# Altium schematic symbol library SRAD_SAC_Schlib.SchLib: 40 symbols
Pins are listed as number, name and electrical type; pins without a type are passive.

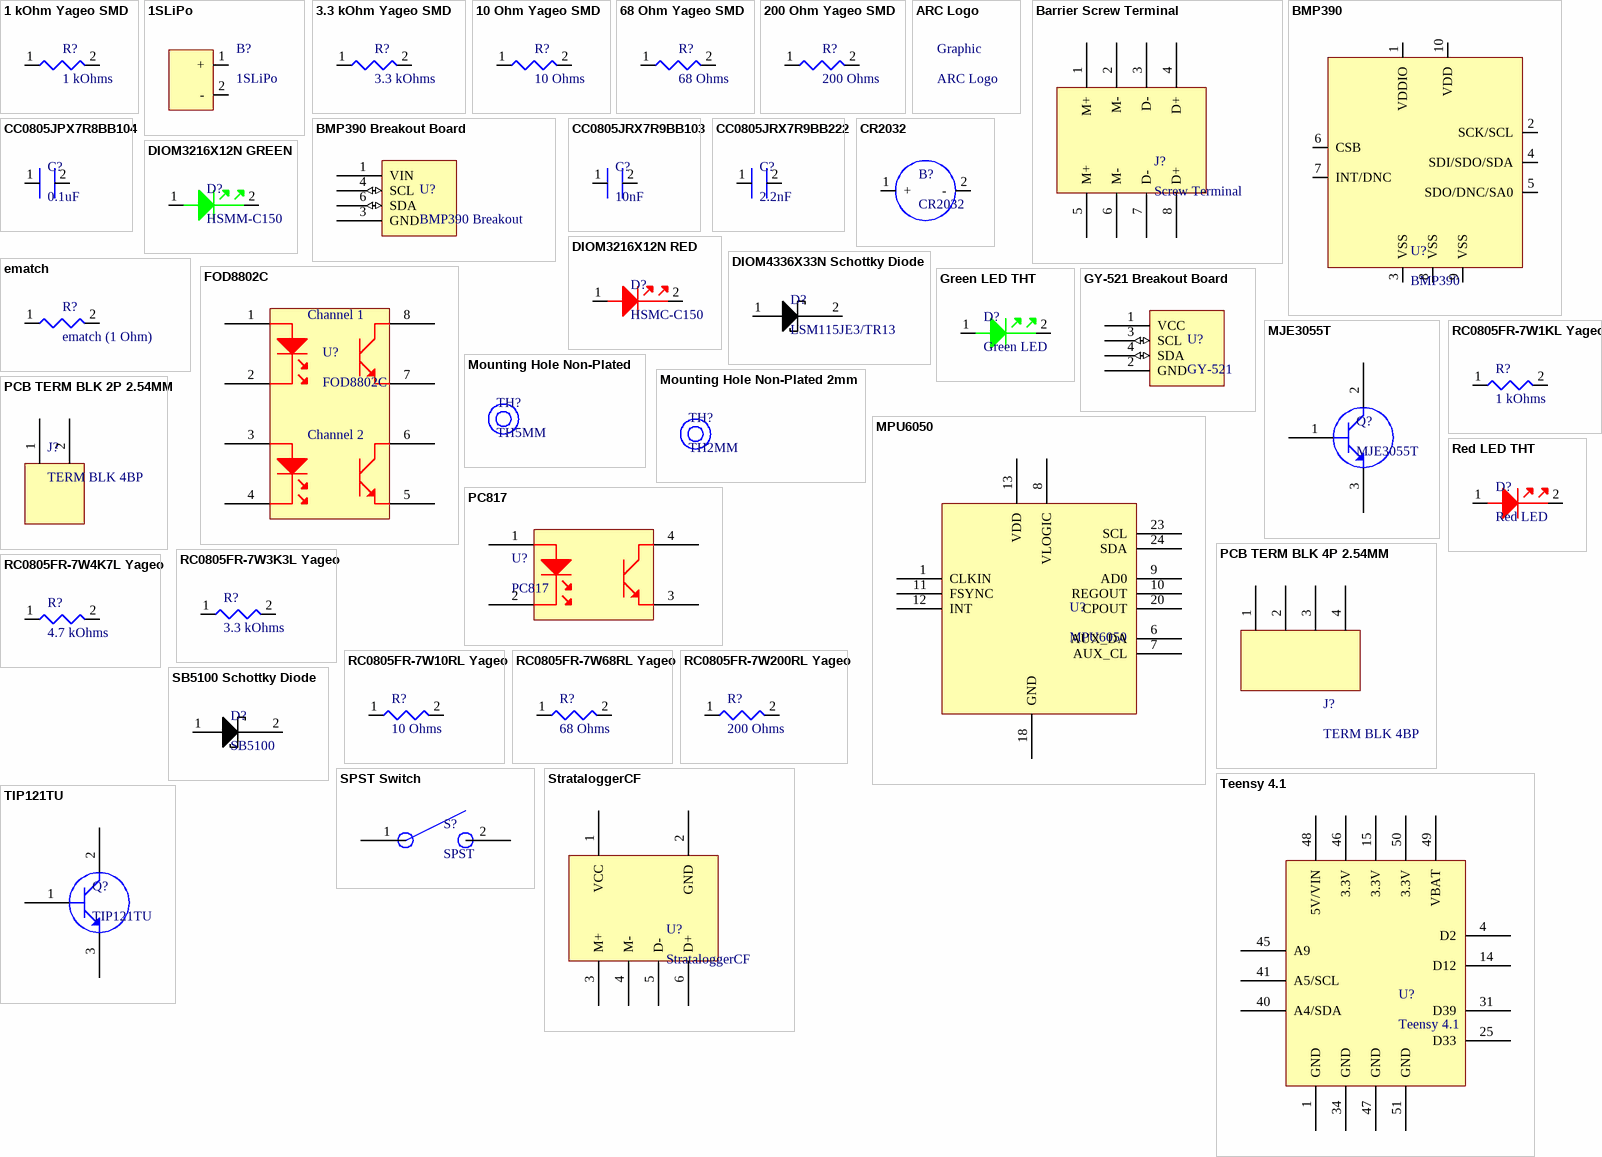
[diagram p0: symbols 1 kOhm Yageo SMD to TIP121TU]

## 1 kOhm Yageo SMD
designator R?, comment 1 kOhms
1 kOhms ±1% 1W Chip Resistor 2512 (6432 Metric) Moisture Resistant Thick Film; Manufacturer: Yageo; Manufacturer Part Number: RC2512FK-071KL; Value: 1kR; Voltage Rating: 200V; Temperature Coefficient: 100ppm/°C; Supplier 1: Digi-Key; RoHS: Yes; Category: Chip SMD Resistors; Stock 1: 4000; Pricing 1: 4000=0.05361, 8000=0.04850, 12000=0.04629, 28000=0.04435, 100000=0.04255 (USD); Case/Package: 2512; Case Code (Imperial): 2512; Case Code (Metric): 6432; Contact Plating: Tin,Matte; Min Operating Temperature: -55°C; Max Operating Temperature: 155°C; Tolerance: 1%; Power Rating: 1W; Packaging: Tape and Reel; Resistor Type: Thick Film; Number of Terminations: 2; Termination: SMD/SMT; Max Power Dissipation: 1W; Features: Moisture Resistant; Series: RC; Construction: Rectangular; Resistance Tolerance: 1%; Length: 0.25inch; Width: 3.1mm; Height: 0.026inch; Depth: 3.1mm; Radiation Hardening: No; Military Standard: Not; Lead Free: Lead Free; RoHS Compliant: Yes; ComponentLink1URL: https://datasheet.ciiva.com/7671/638316-7671963.pdf?src-supplier=Element14; ComponentLink1Description: https://datasheet.ciiva.com/7671/638316-7671963.pdf?src-supplier=Element14; ComponentLink2URL: https://datasheet.ciiva.com/7671/638316-7671962.pdf?src-supplier=Element14; ComponentLink2Description: https://datasheet.ciiva.com/7671/638316-7671962.pdf?src-supplier=Element14; ComponentLink3URL: https://datasheet.ciiva.com/12555/pyu-rc2512-51-rohs-l-4-12555290.pdf?src-supplier=Mouser; ComponentLink3Description: https://datasheet.ciiva.com/12555/pyu-rc2512-51-rohs-l-4-12555290.pdf?src-supplier=Mouser; ComponentLink4URL: https://datasheet.ciiva.com/8896/pyu-rc2512-51-rohs-l-4-8896186.pdf?src-supplier=Avnet; ComponentLink4Description: https://datasheet.ciiva.com/8896/pyu-rc2512-51-rohs-l-4-8896186.pdf?src-supplier=Avnet; ComponentLink5URL: https://datasheet.ciiva.com/17421/pyu-rc2512-51-rohs-l-4-17421912.pdf?src-supplier=Future+Electronics; ComponentLink5Description: https://datasheet.ciiva.com/17421/pyu-rc2512-51-rohs-l-4-17421912.pdf?src-supplier=Future+Electronics; Supplier Part Number 1: YAG3390TR-ND
footprint 1 kOhm Yageo SMD
pins: 1, 2

## 1SLiPo
designator B?
1S Lithium Polymer Battery 3.7-4.2V nominal voltage
footprint 1SLiPo
pins: 1 + (power), 2 -

## 3.3 kOhm Yageo SMD
designator R?, comment 3.3 kOhms
3.3 kOhms ±1% 1W Chip Resistor 2512 (6432 Metric) Moisture Resistant Thick Film; Manufacturer: Yageo; Manufacturer Part Number: RC2512FK-073K3L; Value: 3.3kR; Voltage Rating: 200V; Temperature Coefficient: 100ppm/°C; Supplier 1: Digi-Key; RoHS: Yes; Category: Chip SMD Resistors; Stock 1: 6193; Pricing 1: 1=0.41000, 10=0.29400, 100=0.11740, 1000=0.05786 (USD); Case/Package: 2512; Case Code (Imperial): 2512; Case Code (Metric): 6432; Contact Plating: Tin,Lead; Min Operating Temperature: -55°C; Max Operating Temperature: 155°C; Tolerance: 1%; Power Rating: 1W; Packaging: Tape and Reel; Resistor Type: Thick Film; Number of Terminations: 2; Termination: SMD/SMT; Max Power Dissipation: 1W; Features: Moisture Resistant; Series: RC; Resistance Tolerance: 1%; Construction: Rectangular; Length: 0.25inch; Width: 3.1mm; Height: 0.026inch; Depth: 3.1mm; Radiation Hardening: No; Military Standard: Not; RoHS Compliant: Yes; ComponentLink1URL: https://datasheet.ciiva.com/7671/638316-7671990.pdf?src-supplier=Element14; ComponentLink1Description: https://datasheet.ciiva.com/7671/638316-7671990.pdf?src-supplier=Element14; ComponentLink2URL: https://datasheet.ciiva.com/7671/638316-7671991.pdf?src-supplier=Element14; ComponentLink2Description: https://datasheet.ciiva.com/7671/638316-7671991.pdf?src-supplier=Element14; ComponentLink3URL: https://datasheet.ciiva.com/12575/pyu-rc2512-51-rohs-l-4-12575433.pdf?src-supplier=Mouser; ComponentLink3Description: https://datasheet.ciiva.com/12575/pyu-rc2512-51-rohs-l-4-12575433.pdf?src-supplier=Mouser; Supplier Part Number 1: 13-RC2512FK-073K3LCT-ND
footprint 3.3 kOhm Yageo SMD
pins: 1, 2

## 10 Ohm Yageo SMD
designator R?, comment 10 Ohms
10 Ohms ±1% 1W Chip Resistor 2512 (6432 Metric) Moisture Resistant Thick Film; Manufacturer: Yageo; Manufacturer Part Number: RC2512FK-0710RL; Value: 10R; Voltage Rating: 200V; Temperature Coefficient: 200ppm/°C; Supplier 1: Digi-Key; RoHS: Yes; Category: Chip SMD Resistors; Stock 1: 164000; Pricing 1: 4000=0.10208, 8000=0.09187, 12000=0.08983, 28000=0.08677, 100000=0.08425 (USD); Case/Package: 2512; Case Code (Imperial): 2512; Case Code (Metric): 6432; Min Operating Temperature: -55°C; Max Operating Temperature: 155°C; Packaging: Tape and Reel; Power Rating: 1W; Tolerance: 1%; Resistor Type: Thick Film; Number of Terminations: 2; Termination: SMD/SMT; Max Power Dissipation: 1W; Working Voltage: 200V; Features: Moisture Resistant; Series: RC; Construction: Rectangular; Resistance Tolerance: 1%; Technology: THICK FILM; Length: 0.25inch; Width: 0.122inch; Height: 0.026inch; Depth: 3.1mm; Military Standard: Not; Lead Free: Lead Free; RoHS Compliant: Yes; ComponentLink1URL: https://datasheet.ciiva.com/23789/442906-23789776.pdf?src-supplier=Newark; ComponentLink1Description: https://datasheet.ciiva.com/23789/442906-23789776.pdf?src-supplier=Newark; ComponentLink2URL: https://datasheet.ciiva.com/7671/638316-7671951.pdf?src-supplier=Element14; ComponentLink2Description: https://datasheet.ciiva.com/7671/638316-7671951.pdf?src-supplier=Element14; ComponentLink3URL: https://datasheet.ciiva.com/12667/pyu-rc2512-51-rohs-l-4-12667005.pdf?src-supplier=Mouser; ComponentLink3Description: https://datasheet.ciiva.com/12667/pyu-rc2512-51-rohs-l-4-12667005.pdf?src-supplier=Mouser; ComponentLink4URL: https://datasheet.ciiva.com/16741/pyu-rc2512-51-rohs-l-4-16741660.pdf?src-supplier=Future+Electronics; ComponentLink4Description: https://datasheet.ciiva.com/16741/pyu-rc2512-51-rohs-l-4-16741660.pdf?src-supplier=Future+Electronics; Supplier Part Number 1: YAG3389TR-ND
footprint 10 Ohm Yageo SMD
pins: 1, 2

## 68 Ohm Yageo SMD
designator R?, comment 68 Ohms
68 Ohms ±1% 1W Chip Resistor 2512 (6432 Metric) Moisture Resistant Thick Film; Manufacturer: Yageo; Manufacturer Part Number: RC2512FK-0768RL; Value: 68R; Voltage Rating: 200V; Temperature Coefficient: 100ppm/°C; Supplier 1: Digi-Key; RoHS: Yes; Category: Chip SMD Resistors; Pricing 1: 4000=0.05361, 8000=0.04850, 12000=0.04629, 28000=0.04435, 100000=0.04255 (USD); Case/Package: 2512; Case Code (Imperial): 2512; Case Code (Metric): 6432; Contact Plating: Tin,Matte; Min Operating Temperature: -55°C; Max Operating Temperature: 155°C; Tolerance: 1%; Power Rating: 1W; Packaging: Tape and Reel; Resistor Type: Thick Film; Number of Terminations: 2; Termination: SMD/SMT; Max Power Dissipation: 1W; Features: Moisture Resistant; Series: RC; Construction: Rectangular; Resistance Tolerance: 1%; Length: 0.25inch; Width: 0.122inch; Height: 0.026inch; Depth: 3.1mm; Radiation Hardening: No; Military Standard: Not; RoHS Compliant: Yes; ComponentLink1URL: https://datasheet.ciiva.com/7672/638316-7672008.pdf?src-supplier=Element14; ComponentLink1Description: https://datasheet.ciiva.com/7672/638316-7672008.pdf?src-supplier=Element14; ComponentLink2URL: https://datasheet.ciiva.com/7672/638316-7672009.pdf?src-supplier=Element14; ComponentLink2Description: https://datasheet.ciiva.com/7672/638316-7672009.pdf?src-supplier=Element14; Supplier Part Number 1: 13-RC2512FK-0768RLTR-ND
footprint 68 Ohm Yageo SMD
pins: 1, 2

## 200 Ohm Yageo SMD
designator R?, comment 200 Ohms
200 Ohms ±1% 1W Chip Resistor 2512 (6432 Metric) Moisture Resistant Thick Film made by Yageo; Manufacturer Part Number: RC2512FK-07200RL; Value: 200R; Temperature Coefficient: 100ppm/°C; Voltage Rating: 200V; Supplier 1: Digi-Key; Manufacturer: Yageo; RoHS: Yes; Category: Chip SMD Resistors; Stock 1: 3518; Pricing 1: 1=0.41000, 10=0.29400, 100=0.11740, 1000=0.05786 (USD); Case/Package: 2512; Case Code (Imperial): 2512; Case Code (Metric): 6432; Contact Plating: Tin,Matte; Min Operating Temperature: -55°C; Max Operating Temperature: 155°C; Tolerance: 1%; Packaging: Tape and Reel; Resistor Type: Thick Film; Number of Terminations: 2; Max Power Dissipation: 1W; Features: Moisture Resistant; Power Rating: 1W; Termination: SMD/SMT; Series: RC; Construction: Rectangular; Length: 6.35mm; Width: 0.122inch; Height: 0.026inch; Depth: 3.1mm; Radiation Hardening: No; RoHS Compliant: Yes; Military Standard: Not; ComponentLink1URL: https://datasheet.ciiva.com/12555/pyu-rc2512-51-rohs-l-4-12555336.pdf?src-supplier=Mouser; ComponentLink1Description: https://datasheet.ciiva.com/12555/pyu-rc2512-51-rohs-l-4-12555336.pdf?src-supplier=Mouser; Supplier Part Number 1: 13-RC2512FK-07200RLCT-ND
footprint 200 Ohm Yageo SMD
pins: 1, 2

## ARC Logo
designator Graphic  (graphical)

## Barrier Screw Terminal
designator J?, comment Screw Terminal
footprint Barrier Screw Terminal
pins: 1 M+, 2 M-, 3 D-, 4 D+, 5 M+, 6 M-, 7 D-, 8 D+

## BMP390
designator U?
Barometric pressure sensor manufactured by Bosch.; Supplier: Rutrinik24; Supplier ID: ICENVI1363
footprint BMP390 (LGA, 20-Leads, Body 2.00x2.00mmx0.80mm, Pitch 0.50mm)
pins: 1 VDDIO, 2 SCK/SCL, 3 VSS, 4 SDI/SDO/SDA, 5 SDO/DNC/SA0, 6 CSB, 7 INT/DNC, 8 VSS, 9 VSS, 10 VDD

## BMP390 Breakout Board
designator U?, comment BMP390 Breakout
Barometric pressure sensor manufactured by Bosch.
footprint BMP390
pins: 1 VIN, 3 GND, 4 SCL (io), 6 SDA (io)

## CC0805JPX7R8BB104
designator C?, comment 0.1uF
Capacitor Multilayer Ceramic MLCC - SMD/SMT 25 V 0.1uF X7R 0805 5%; Manufacturer: Yageo; Manufacturer Part Number: CC0805JPX7R8BB104; Supplier 1: Mouser; RoHS: Yes; Category: Ceramic Capacitors; Stock 1: 164887; Pricing 1: 1=0.14000, 10=0.09400, 50=0.09400, 100=0.04800, 1000=0.02900, 10000=0.02300 (USD); RoHS Compliant: Yes; Supplier Part Number 1: 603-CC0805JPX7R8BB10
footprint CAPC2012X14N_1_35mm_HEIGHT (Chip Capacitor, 2-Leads, Body 2.00x1.25mm, IPC Medium Density)
pins: 1, 2

## CC0805JRX7R9BB103
designator C?, comment 10nF
Capacitor Multilayer Ceramic MLCC - SMD/SMT 50V 10nF X7R 0805 5%; Manufacturer: Yageo; Manufacturer Part Number: CC0805JRX7R9BB103; Dissipation Factor: 2.5%; Insulation Resistance: 10GR; Supplier 1: Mouser; RoHS: Yes; Category: Ceramic Capacitors; Stock 1: 102180; Pricing 1: 1=0.12000, 10=0.05000, 50=0.05000, 100=0.04100, 1000=0.02400, 10000=0.01700 (USD); Mounting Technology: Surface Mount; Case/Package: 0805; Pins: 2; Case Code (Imperial): 0805; Case Code (Metric): 2012; Min Operating Temperature: -55°C; Max Operating Temperature: 125°C; Voltage Rating (DC): 50V; Tolerance: 5%; Packaging: Tape and Reel; Value: 10nF; Voltage Rating: 50V; Package Quantity: 4000; Dielectric: X7R; Termination: SMD/SMT; Resistor Type: Ceramic; Series: CC; Construction: Flat; Length: 2mm; Width: 0.049inch; Height: 0.6mm; Thickness: 0.071inch; Depth: 1.25mm; Radiation Hardening: No; Lead Free: Lead Free; Halogen Free: Halogen Free; RoHS Compliant: Yes; ComponentLink1URL: https://datasheet.ciiva.com/26862/getdatasheetpartid-251801-26862952.pdf?src-supplier=Verical; ComponentLink1Description: https://datasheet.ciiva.com/26862/getdatasheetpartid-251801-26862952.pdf?src-supplier=Verical; ComponentLink2URL: https://datasheet.ciiva.com/11583/upy-gphc-x7r-6-3v-to-50v-8-11583532.pdf?src-supplier=Avnet; ComponentLink2Description: https://datasheet.ciiva.com/11583/upy-gphc-x7r-6-3v-to-50v-8-11583532.pdf?src-supplier=Avnet; ComponentLink3URL: https://datasheet.ciiva.com/13385/upy-gphc-x7r-6-3v-to-50v-8-13385902.pdf?src-supplier=Mouser; ComponentLink3Description: https://datasheet.ciiva.com/13385/upy-gphc-x7r-6-3v-to-50v-8-13385902.pdf?src-supplier=Mouser; Supplier Part Number 1: 603-CC805JRX7R9BB103
footprint CAPC2012X07N_06mmHEIGHT (Chip Capacitor, 2-Leads, Body 2.00x1.25mm, IPC Medium Density)
pins: 1, 2

## CC0805JRX7R9BB222
designator C?, comment 2.2nF
Capacitor Multilayer Ceramic MLCC - SMD/SMT 50 V 2.2nF X7R 0805 5%; Manufacturer: Yageo; Manufacturer Part Number: CC0805JRX7R9BB222; Voltage Rating: 50V; Supplier 1: Mouser; RoHS: Yes; Category: Ceramic Capacitors; Stock 1: 8721; Pricing 1: 1=0.14000, 10=0.06300, 50=0.06300, 100=0.04600, 1000=0.02800, 10000=0.01700 (USD); Mounting Technology: Surface Mount; Case/Package: 0805; Case Code (Imperial): 0805; Case Code (Metric): 2012; Min Operating Temperature: -55°C; Max Operating Temperature: 125°C; Value: 2.2nF; Tolerance: 5%; Voltage Rating (DC): 50V; Packaging: Tape and Reel; Dielectric: X7R; Termination: SMD/SMT; Resistor Type: Ceramic; Series: CC; Length: 2mm; Width: 0.049inch; Height: 0.6mm; Thickness: 0.028inch; Depth: 1.25mm; Radiation Hardening: No; Lead Free: Lead Free; Halogen Free: Halogen Free; RoHS Compliant: Yes; ComponentLink1URL: https://datasheet.ciiva.com/5425/upy-gphc-x7r-6-3v-to-50v-8-12304-5425448.pdf?src-supplier=Mouser; ComponentLink1Description: https://datasheet.ciiva.com/5425/upy-gphc-x7r-6-3v-to-50v-8-12304-5425448.pdf?src-supplier=Mouser; ComponentLink2URL: https://datasheet.ciiva.com/11583/upy-gphc-x7r-6-3v-to-50v-8-11583549.pdf?src-supplier=Avnet; ComponentLink2Description: https://datasheet.ciiva.com/11583/upy-gphc-x7r-6-3v-to-50v-8-11583549.pdf?src-supplier=Avnet; ComponentLink3URL: https://datasheet.ciiva.com/26829/getdatasheetpartid-407633-26829532.pdf?src-supplier=Verical; ComponentLink3Description: https://datasheet.ciiva.com/26829/getdatasheetpartid-407633-26829532.pdf?src-supplier=Verical; Supplier Part Number 1: 603-CC805JRX7R9BB222
footprint CAPC2012X07N_06mmHEIGHT (Chip Capacitor, 2-Leads, Body 2.00x1.25mm, IPC Medium Density)
pins: 1, 2

## CR2032
designator B?
CR2032 Coin cell battery of 3V.
footprint CR2032
pins: 1 +, 2 -

## DIOM3216X12N GREEN
designator D?, comment HSMM-C150
Green 525nm LED Indication - Discrete 3.3V 1206 (3216 Metric); Manufacturer: Broadcom Avago; Lens Color: White; Lens Style: Diffused,Colorless,Rectangular; Viewing Angle: 170°; Forward Current: 20mA; Power Rating: 78mW; Luminous Intensity: 120mcd; Lens Transparency: Diffused; Number of LEDs: 1; Reverse Voltage: 5V; Supplier 1: Digi-Key; Manufacturer Part Number: HSMM-C150; RoHS: Yes; Category: LEDs; Stock 1: 3000; Pricing 1: 3000=0.48083, 6000=0.46999, 15000=0.45914 (USD); Mounting Technology: Surface Mount; Case/Package: 1206; Pins: 2; Color: Green; Case Code (Imperial): 1206; Contact Plating: Gold; Min Operating Temperature: -40°C; Max Operating Temperature: 85°C; Packaging: Tape and Reel; Package Quantity: 3000; Illumination Color: Green; Forward Voltage: 3.3V; Test Current: 20mA; Dominant Wavelength: 525nm; Wavelength: 525nm; Max Power Dissipation: 78mW; Series: -; Length: 3.2mm; Width: 1.6mm; Height: 1.1mm; Lead Free: Lead Free; RoHS Compliant: Yes; ComponentLink1URL: http://components.arrow.com/part/dataview/2630207S7245440N7786?src-supplier=Arrow+Electronics; ComponentLink1Description: http://components.arrow.com/part/dataview/2630207S7245440N7786?src-supplier=Arrow+Electronics; ComponentLink2URL: https://docs.broadcom.com/docs/AV02-0592EN?src-supplier=Digi-Key; ComponentLink2Description: https://docs.broadcom.com/docs/AV02-0592EN?src-supplier=Digi-Key; ComponentLink3URL: http://www.avagotech.com/docs/AV02-0592EN?src-supplier=Avnet; ComponentLink3Description: http://www.avagotech.com/docs/AV02-0592EN?src-supplier=Avnet; ComponentLink4URL: http://www.avagotech.com/docs/AV02-0592EN?src-supplier=Mouser; ComponentLink4Description: http://www.avagotech.com/docs/AV02-0592EN?src-supplier=Mouser; ComponentLink5URL: http://www.farnell.com/datasheets/1804332.pdf?src-supplier=Element14; ComponentLink5Description: http://www.farnell.com/datasheets/1804332.pdf?src-supplier=Element14; Supplier Part Number 1: 516-HSMM-C150TR-ND
footprint DIOM3216X12N GREEN (Molded Diode, 2-Leads, Body 3.20x1.60mm, IPC Medium Density)
pins: 1 +, 2 -

## DIOM3216X12N RED
designator D?, comment HSMC-C150
Red 626nm LED Indication - Discrete 1.9V 1206 (3216 Metric); Manufacturer: Broadcom Avago; Lens Color: White; Forward Current: 20mA; Luminous Intensity: 90mcd; Viewing Angle: 170°; Lens Style: Diffused,Colorless,Rectangular; Power Rating: 60mW; Lens Transparency: Diffused; Number of Elements: 1; Reverse Voltage: 5V; Supplier 1: Digi-Key; Manufacturer Part Number: HSMC-C150; RoHS: Yes; Category: LEDs; Stock 1: 24000; Pricing 1: 3000=0.18077, 6000=0.16871, 15000=0.16269, 30000=0.16028 (USD); Mounting Technology: Surface Mount; Case/Package: 1206; Pins: 2; Color: Red; Case Code (Metric): 3016; Case Code (Imperial): 1206; Min Operating Temperature: -40°C; Max Operating Temperature: 85°C; Forward Voltage: 1.9V; Packaging: Tape and Reel; Package Quantity: 1; Series: -; Illumination Color: Red; Wavelength: 626nm; Test Current: 20mA; Dominant Wavelength: 626nm; Power Dissipation: 60mW; Max Power Dissipation: 60mW; Number of LEDs: 1; Length: 3.2mm; Width: 1.6mm; Height: 1.1mm; Depth: 1.6mm; Radiation Hardening: No; RoHS Compliant: Yes; Reach SVHC Compliant: Yes; ComponentLink1URL: https://datasheet.ciiva.com/29281/180506-da-01-en-chip-led-hsmc-c150-rot-29281000.pdf?src-supplier=Conrad; ComponentLink1Description: https://datasheet.ciiva.com/29281/180506-da-01-en-chip-led-hsmc-c150-rot-29281000.pdf?src-supplier=Conrad; ComponentLink2URL: https://datasheet.ciiva.com/48430/hsmx-c110-170-190-191-150-eng-tds-48430136.pdf?src-supplier=Distrelec; ComponentLink2Description: https://datasheet.ciiva.com/48430/hsmx-c110-170-190-191-150-eng-tds-48430136.pdf?src-supplier=Distrelec; ComponentLink3URL: https://datasheet.ciiva.com/22656/80886-22656552.pdf?src-supplier=Element14; ComponentLink3Description: https://datasheet.ciiva.com/22656/80886-22656552.pdf?src-supplier=Element14; ComponentLink4URL: https://datasheet.ciiva.com/22656/80886-22656553.pdf?src-supplier=Element14; ComponentLink4Description: https://datasheet.ciiva.com/22656/80886-22656553.pdf?src-supplier=Element14; Supplier Part Number 1: 516-2825-2-ND
footprint DIOM3216X12N RED (Molded Diode, 2-Leads, Body 3.20x1.60mm, IPC Medium Density)
pins: 1 +, 2 -

## DIOM4336X33N Schottky Diode
designator D?, comment LSM115JE3/TR13
Diode 15 V 1A Surface Mount DO-214BA 220mV dropout @1A 10mA leakage current @15V -55°C ~ 150°C Maximum surge current of 50A for 8.3ms; Manufacturer: Microchip; Supplier 1: Digi-Key; Manufacturer Part Number: LSM115JE3/TR13; RoHS: Yes; Category: Rectifier Diodes; Stock 1: 319959; Pricing 1: 3000=0.55500 (USD); Supplier Part Number 1: 150-LSM115JE3/TR13TR-ND
footprint DIOM4336X33N (Molded Diode, 2-Leads, Body 4.31x3.62mm, IPC Medium Density)
pins: 1 +, 2 -

## ematch
designator R?, comment ematch (1 Ohm)
ematch of 1.0-1.5 Ohms of resistance that lights black powder ejection charges.
footprint ematch
pins: 1 +, 2 -

## FOD8802C
designator U?
Optoisolator Transistor Output 2500Vrms 2 Channel 8-SOIC 75V max 30mA/channel Vf 1.35V -40°C ~ 125°C minimum CTR of / 140% @ 1mA maximum CTR of / 380% @ 1mA; Manufacturer: ON Semiconductor; Supplier 1: Digi-Key; Manufacturer Part Number: FOD8802C; RoHS: No; Category: Optocouplers; Stock 1: 2868; Pricing 1: 1=1.72000, 10=1.54500, 25=1.45760, 100=1.24180, 250=1.16600, 500=1.02024, 1000=0.84535, 2500=0.78705, 5000=0.75790 (USD); Supplier Part Number 1: 488-FOD8802C-ND
footprint SOIC127P590X363-8N OPTO (SOIC, 8-Leads, Body 4.88x3.91mm, Pitch 1.27mm, IPC Medium Density)
pins: 1 +, 2 -, 3 +, 4 -, 5 E2, 6 C2, 7 E1, 8 C1
text: Channel 1; Channel 2

## Green LED THT
designator D?, comment Green LED
Green 525nm LED Indication - Discrete 3.2V Radial HLMP-LM65-Z30DD; Manufacturer: Broadcom Avago; Luminous Intensity: 3720mcd; Viewing Angle: 50°; Lens Style: Elliptical,Diffused,Colored; Wavelength: 540nm; Forward Current: 20mA; Lens Transparency: Diffused; Number of Elements: 1; Power Dissipation: 114mW; Reverse Voltage: 5V; Supplier 1: Digi-Key; Manufacturer Part Number: HLMP-LM65-Z30DD; RoHS: Yes; Category: LEDs; Mounting Technology: Through Hole; Case/Package: Radial; Pins: 2; Color: Green; Lens Color: Green; Min Operating Temperature: -40°C; Max Operating Temperature: 85°C; Forward Voltage: 3.2V; Packaging: Tape and Reel; Package Quantity: 2000; Test Current: 20mA; Dominant Wavelength: 525nm; Number of LEDs: 1; Series: -; Length: 3.8mm; Height: 10.5mm; Depth: 3mm; Radiation Hardening: No; Reach SVHC Compliant: Yes; RoHS Compliant: Yes; ComponentLink1URL: https://datasheet.ciiva.com/5786/303222-5786291.pdf?src-supplier=Farnell; ComponentLink1Description: https://datasheet.ciiva.com/5786/303222-5786291.pdf?src-supplier=Farnell; Supplier Part Number 1: HLMP-LM65-Z30DD-ND
footprint Green LED THT
pins: 1 +, 2 -

## GY-521 Breakout Board
designator U?, comment GY-521
Accelerometer and gyroscope 6 DOF sensor. GY-521 breakout board by HiLetgo and MPU6050 chip by Invensense.
footprint MPU6050
pins: 1 VCC, 2 GND, 3 SCL (io), 4 SDA (io)

## MJE3055T
designator Q?
Bipolar (BJT) Transistor NPN 60 V 10 A 2MHz 75 W Through Hole
footprint MJE3055T
pins: 1 B, 2 C, 3 E

## Mounting Hole Non-Plated
designator TH?, comment TH5MM  (no BOM)
Non-plated THT 5mm diameter
footprint Mounting Hole Non-Plated

## Mounting Hole Non-Plated 2mm
designator TH?, comment TH2MM  (no BOM)
Non-plated THT 2mm diameter
footprint Mounting Hole Non-Plated 2MM

## MPU6050
designator U?
Accelerometer and gyroscope 6 DOF sensor. GY-521 breakout board by HiLetgo and MPU6050 chip by Invensense.
footprint MPU6050 (QFN, 24-Leads, Body 4.00x4.00mm, Pitch 0.50mm, Thermal Pad 2.70x2.60mm, IPC Medium Density)
pins: 1 CLKIN, 6 AUX_DA, 7 AUX_CL, 8 VLOGIC, 9 AD0, 10 REGOUT, 11 FSYNC, 12 INT, 13 VDD, 18 GND, 20 CPOUT, 23 SCL, 24 SDA

## PC817
designator U?
Photocoupler output: phototransistor, DIP4 2.54mm, Forward current (ICEO): 50mA Forward peak current (ICE max) :1A Reverse voltage :6V Power consumption: 70mW Collector emitter voltage :35V Emitter collector voltage: 6V Collector current: 50mA Collector power consumption: 150mW Total power consumption: 200mW Working temperature: -30℃~+100℃ Collector emitter saturation voltage: 0.1V (typical value)
footprint PC817
pins: 1 +, 2 -, 3 E, 4 C

## PCB TERM BLK 2P 2.54MM
designator J?, comment TERM BLK 4BP
2 Position Wire to Board Terminal Block Horizontal with Board 0.100" (2.54mm) Through Hole 10A 150V 16-30 AWG 0.2 Nm M1.6 screw -40°C ~ 105°C; Manufacturer: TE Connectivity; Manufacturer Part Number: 282834-2; Plating: Brass,Steel; Number of Poles: 2; Gender: Male; Number of Levels: 1; Connector Type: Receptacle; Closed End: No (Without); Screwless Terminal Block: Yes (With); Wire Gauge (Max): 30AWG; Tail Length: 3.4mm; Approvals: UL; Supplier 1: Digi-Key; RoHS: Yes; Category: Terminal Blocks; Stock 1: 34508; Pricing 1: 1=1.95000, 10=1.47400, 25=1.36640, 50=1.22860, 100=1.19860, 250=1.04876, 500=0.95886, 1000=0.86896, 5000=0.76409 (USD); Mounting Technology: Through Hole; Contact Plating: Tin; Contact Material: Brass; Color: Green; Material: Nylon; Housing Color: Green; Housing Material: Polyamide; Min Operating Temperature: -40°C; Max Operating Temperature: 105°C; Number of Rows: 1; Max Voltage Rating (AC): 150V; Current Rating: 10A; Voltage Rating: 150V; Package Quantity: 300; Packaging: Bulk; Number of Positions: 2; Termination: Solder; Number of Positions Per Level: 2; Current: 10A; Voltage: 150V; Max Supply Voltage (AC): 150V; Number of Contacts: 2; Number of Circuits: 2; Orientation: Straight; Max Current Rating: 10A; Interlock: No (Without); Screw Flange: No (Without); Side Stackable: Yes (With); Series: Buchanan; Length: 5.54mm; Width: 6.5mm; Wire Gauge (Min): 30AWG; Wire/Cable Gauge: 30AWG; Pitch: 2.54mm; Thread Size: M1.6; Depth: 6.5mm; Radiation Hardening: No; ELV: Compliant; Lead Free: Lead Free; Flammability Rating: UL94 V-0; RoHS Compliant: Yes; ComponentLink1URL: https://datasheet.ciiva.com/16386/282834-2-16386363.pdf?src-supplier=Future+Electronics; ComponentLink1Description: https://datasheet.ciiva.com/16386/282834-2-16386363.pdf?src-supplier=Future+Electronics; ComponentLink2URL: https://datasheet.ciiva.com/30166/eng-cs-1308389-eurostyle-terminal-blocks-0607-30166974.pdf?src-supplier=Onlinecomponents.com; ComponentLink2Description: https://datasheet.ciiva.com/30166/eng-cs-1308389-eurostyle-terminal-blocks-0607-30166974.pdf?src-supplier=Onlinecomponents.com; ComponentLink3URL: https://datasheet.ciiva.com/14609/70086732-14609670.pdf?src-supplier=Allied+Electronics; ComponentLink3Description: https://datasheet.ciiva.com/14609/70086732-14609670.pdf?src-supplier=Allied+Electronics; ComponentLink4URL: https://datasheet.ciiva.com/15169/getdatasheetpartid-155864-15169558.pdf?src-supplier=Verical; ComponentLink4Description: https://datasheet.ciiva.com/15169/getdatasheetpartid-155864-15169558.pdf?src-supplier=Verical; ComponentLink5URL: https://datasheet.ciiva.com/3141/eng-cs-1308389-eurostyle-terminal-blocks-0607-3141115.pdf?src-supplier=Avnet; ComponentLink5Description: https://datasheet.ciiva.com/3141/eng-cs-1308389-eurostyle-terminal-blocks-0607-3141115.pdf?src-supplier=Avnet; Supplier Part Number 1: A98333-ND
footprint PCB TERM BLK 2P 2.54MM
pins: 1 +, 2 -

## PCB TERM BLK 4P 2.54MM
designator J?, comment TERM BLK 4BP
4 Position Wire to Board Terminal Block Horizontal with Board 0.100" (2.54mm) Through Hole 10A 150V 16-30 AWG 0.2 Nm M1.6 screw -40°C ~ 105°C; Manufacturer: TE Connectivity; Manufacturer Part Number: 282834-4; Plating: Brass,Steel; Number of Poles: 4; Number of Levels: 1; Connector Type: Receptacle; Closed End: No (Without); Screwless Terminal Block: Yes (With); Wire/Cable Gauge: 30AWG; Tail Length: 3.4mm; Approvals: UL; Supplier 1: Digi-Key; RoHS: Yes; Category: Terminal Blocks; Stock 1: 8416; Pricing 1: 1=3.48000, 10=2.64900, 25=2.48120, 50=2.20540, 100=2.15740, 250=1.98964, 500=1.79786, 1000=1.59409, 5000=1.49821 (USD); Mounting Technology: Through Hole; Contact Plating: Tin; Contact Material: Brass; Color: Green; Housing Color: Green; Housing Material: Polyamide; Min Operating Temperature: -40°C; Max Operating Temperature: 105°C; Voltage Rating: 150V; Package Quantity: 150; Packaging: Bulk; Max Voltage Rating (AC): 150V; Number of Rows: 1; Current Rating: 10A; Number of Positions Per Level: 4; Current: 10A; Voltage: 150V; Termination: Solder; Number of Positions: 4; Number of Contacts: 4; Number of Circuits: 4; Max Supply Voltage (AC): 150V; Orientation: Straight; Max Current Rating: 10A; Interlock: No (Without); Screw Flange: No (Without); Side Stackable: Yes (With); Series: Buchanan; Length: 10.62mm; Wire Gauge (Max): 30AWG; Wire Gauge (Min): 30AWG; Pitch: 2.54mm; Thread Size: M1.6; Depth: 6.5mm; Radiation Hardening: No; ELV: Compliant; Lead Free: Lead Free; Flammability Rating: UL94 V-0; RoHS Compliant: Yes; ComponentLink1URL: https://datasheet.ciiva.com/5741/1605505-5741440.pdf?src-supplier=Farnell; ComponentLink1Description: https://datasheet.ciiva.com/5741/1605505-5741440.pdf?src-supplier=Farnell; ComponentLink2URL: https://datasheet.ciiva.com/30254/eng-cs-1308389-eurostyle-terminal-blocks-0607-30254374.pdf?src-supplier=Onlinecomponents.com; ComponentLink2Description: https://datasheet.ciiva.com/30254/eng-cs-1308389-eurostyle-terminal-blocks-0607-30254374.pdf?src-supplier=Onlinecomponents.com; ComponentLink3URL: https://datasheet.ciiva.com/14609/70087596-14609846.pdf?src-supplier=Allied+Electronics; ComponentLink3Description: https://datasheet.ciiva.com/14609/70087596-14609846.pdf?src-supplier=Allied+Electronics; ComponentLink4URL: https://datasheet.ciiva.com/3141/eng-cs-1308389-eurostyle-terminal-blocks-0607-3141117.pdf?src-supplier=Avnet; ComponentLink4Description: https://datasheet.ciiva.com/3141/eng-cs-1308389-eurostyle-terminal-blocks-0607-3141117.pdf?src-supplier=Avnet; ComponentLink5URL: https://datasheet.ciiva.com/823/eng-cd-282834-c1-823474.pdf?src-supplier=Digi-Key; ComponentLink5Description: https://datasheet.ciiva.com/823/eng-cd-282834-c1-823474.pdf?src-supplier=Digi-Key; Supplier Part Number 1: A98335-ND
footprint PCB TERM BLK 4P 2.54MM
pins: 1, 2, 3, 4

## RC0805FR-7W1KL Yageo
designator R?, comment 1 kOhms
1 kOhms ±1% 0.25W, 1/4W Chip Resistor 0805 (2012 Metric) Moisture Resistant Thick Film; Manufacturer: Yageo; Manufacturer Part Number: RC0805FR-7W1KL; Value: 1kR; Supplier 1: Digi-Key; RoHS: Yes; Category: Chip SMD Resistors; Stock 1: 15000; Pricing 1: 5000=0.01838, 10000=0.01715, 25000=0.01629, 50000=0.01596, 125000=0.01562 (USD); Case/Package: 0805; Tolerance: 1%; RoHS Compliant: Yes; Supplier Part Number 1: 13-RC0805FR-7W1KLTR-ND
footprint RESC2012X06N (Chip Resistor, 2-Leads, Body 2.00x1.25mm, IPC Medium Density)
pins: 1, 2

## RC0805FR-7W3K3L Yageo
designator R?, comment 3.3 kOhms
3.3 kOhms ±1% 0.25W, 1/4W Chip Resistor 0805 (2012 Metric) Moisture Resistant Thick Film; Manufacturer: Yageo; Manufacturer Part Number: RC0805FR-7W3K3L; Supplier 1: Avnet; RoHS: Yes; Category: Chip SMD Resistors; Pricing 1: 5000=0.00430, 10000=0.00424, 20000=0.00411 (USD); Supplier Part Number 1: RC0805FR-7W3K3L
footprint RESC2012X06N (Chip Resistor, 2-Leads, Body 2.00x1.25mm, IPC Medium Density)
pins: 1, 2

## RC0805FR-7W4K7L Yageo
designator R?, comment 4.7 kOhms
4.7 kOhms ±1% 0.25W, 1/4W Chip Resistor 0805 (2012 Metric) Moisture Resistant Thick Film; Manufacturer: Yageo; Manufacturer Part Number: RC0805FR-7W4K7L; Supplier 1: Digi-Key; RoHS: Yes; Category: Chip SMD Resistors; Pricing 1: 5000=0.01838 (USD); RoHS Compliant: Yes; Supplier Part Number 1: 13-RC0805FR-7W4K7L-ND
footprint RESC2012X06N (Chip Resistor, 2-Leads, Body 2.00x1.25mm, IPC Medium Density)
pins: 1, 2

## RC0805FR-7W10RL Yageo
designator R?, comment 10 Ohms
10 Ohms ±1% 0.25W, 1/4W Chip Resistor 0805 (2012 Metric) Moisture Resistant Thick Film; Manufacturer: Yageo; Manufacturer Part Number: RC0805FR-7W10RL; Value: 10R; Power Rating: 250mW; Voltage Rating: 150V; Temperature Coefficient: 200ppm/°C; Supplier 1: Digi-Key; RoHS: Yes; Category: Chip SMD Resistors; Stock 1: 10000; Pricing 1: 5000=0.01288, 10000=0.01155, 25000=0.01060, 50000=0.00996, 125000=0.00973 (USD); Case/Package: 0805; Case Code (Metric): 2012; Case Code (Imperial): 0805; Min Operating Temperature: -55°C; Max Operating Temperature: 155°C; Tolerance: 1%; Packaging: Cut Tape; Resistor Type: Thick Film; Voltage Rating (DC): 150V; Resistance Tolerance: 1%; Construction: Rectangular; Length: 2mm; Depth: 1.25mm; Military Standard: Not; RoHS Compliant: Yes; ComponentLink1URL: https://datasheet.ciiva.com/7941/1675737-7941854.pdf?src-supplier=Element14; ComponentLink1Description: https://datasheet.ciiva.com/7941/1675737-7941854.pdf?src-supplier=Element14; ComponentLink2URL: https://datasheet.ciiva.com/22704/1675737-22704071.pdf?src-supplier=Element14; ComponentLink2Description: https://datasheet.ciiva.com/22704/1675737-22704071.pdf?src-supplier=Element14; Supplier Part Number 1: 13-RC0805FR-7W10RLTR-ND
footprint RESC2012X06N (Chip Resistor, 2-Leads, Body 2.00x1.25mm, IPC Medium Density)
pins: 1, 2

## RC0805FR-7W68RL Yageo
designator R?, comment 68 Ohms
68 Ohms ±1% 0.25W, 1/4W Chip Resistor 0805 (2012 Metric) Moisture Resistant Thick Film; Manufacturer: Yageo; Manufacturer Part Number: RC0805FR-7W68RL; Value: 68R; Power Rating: 125mW; Voltage Rating: 150V; Temperature Coefficient: 100ppm/°C; Supplier 1: Digi-Key; RoHS: Yes; Category: Chip SMD Resistors; Pricing 1: 5000=0.01838 (USD); Case/Package: 0805; Pins: 2; Case Code (Metric): 2012; Case Code (Imperial): 0805; Tolerance: 1%; Packaging: Cut Tape; Resistor Type: Thick Film; Voltage Rating (DC): 150V; Resistance Tolerance: 1%; Series: RC0805; Reach SVHC Compliant: Yes; RoHS Compliant: Yes; ComponentLink1URL: https://datasheet.ciiva.com/22683/1675737-22683965.pdf?src-supplier=Element14; ComponentLink1Description: https://datasheet.ciiva.com/22683/1675737-22683965.pdf?src-supplier=Element14; Supplier Part Number 1: 13-RC0805FR-7W68RL-ND
footprint RESC2012X06N (Chip Resistor, 2-Leads, Body 2.00x1.25mm, IPC Medium Density)
pins: 1, 2

## RC0805FR-7W200RL Yageo
designator R?, comment 200 Ohms
200 Ohms ±1% 0.25W, 1/4W Chip Resistor 0805 (2012 Metric) Moisture Resistant Thick Film; Manufacturer: Yageo; Manufacturer Part Number: RC0805FR-7W200RL; Supplier 1: Digi-Key; RoHS: No; Category: Resistors; Pricing 1: 5000=0.01838 (USD); Supplier Part Number 1: 13-RC0805FR-7W200RL-ND
footprint RESC2012X06N (Chip Resistor, 2-Leads, Body 2.00x1.25mm, IPC Medium Density)
pins: 1, 2

## Red LED THT
designator D?, comment Red LED
Red 627nm LED Lighting Color HL3P Radial HL3P-BR60-J00DD; Manufacturer: Broadcom; Supplier 1: Digi-Key; Manufacturer Part Number: HL3P-BR60-J00DD; RoHS: No; Category: Uncategorized; Stock 1: 4693; Pricing 1: 1=0.59000, 10=0.38500, 100=0.25470, 1000=0.19663 (USD); Supplier Part Number 1: 516-HL3P-BR60-J00DDCT-ND
footprint Red LED THT
pins: 1 +, 2 -

## SB5100 Schottky Diode
designator D?, comment SB5100
Diode 100 V 5A Through Hole; Manufacturer: ON Semiconductor / Fairchild; Max Reverse Current: 500uA; Max Surge Current: 150A; Forward Voltage: 850mV; Max Repetitive Reverse Voltage (Vrrm): 100V; Max Forward Surge Current (Ifsm): 100A; Element Configuration: Single; Polarity: Standard; Supplier 1: Digi-Key; Manufacturer Part Number: SB5100; RoHS: Yes; Category: Uncategorized; Stock 1: 1; Pricing 1: 1=1.21000 (USD); Mounting Technology: Through Hole; Case/Package: DO-201AD; Pins: 2; Weight: 0.36g; Min Operating Temperature: -50°C; Max Operating Temperature: 150°C; Packaging: Tape and Reel; Package Quantity: 1; Average Rectified Current: 5A; Max Reverse Leakage Current: 500uA; Peak Non-Repetitive Surge Current: 150A; Forward Current: 5A; Voltage Rating (DC): 100V; Current Rating: 5A; Output Current: 5A; Max Reverse Voltage (DC): 100V; Series: -; Diameter: 5.6mm; Length: 0.25inch; Width: 0.25inch; Height: 9.5mm; Radiation Hardening: No; Reach SVHC Compliant: Yes; Lead Free: Lead Free; RoHS Compliant: Yes; ComponentLink1URL: https://datasheet.ciiva.com/911/sb5100-911093.pdf?src-supplier=Avnet; ComponentLink1Description: https://datasheet.ciiva.com/911/sb5100-911093.pdf?src-supplier=Avnet; ComponentLink2URL: https://datasheet.ciiva.com/4714/sb5100-191746-4714390.pdf?src-supplier=Mouser; ComponentLink2Description: https://datasheet.ciiva.com/4714/sb5100-191746-4714390.pdf?src-supplier=Mouser; ComponentLink3URL: https://datasheet.ciiva.com/7965/78621-7965207.pdf?src-supplier=Element14; ComponentLink3Description: https://datasheet.ciiva.com/7965/78621-7965207.pdf?src-supplier=Element14; ComponentLink4URL: https://datasheet.ciiva.com/911/sb5100-911279.pdf?src-supplier=Digi-Key; ComponentLink4Description: https://datasheet.ciiva.com/911/sb5100-911279.pdf?src-supplier=Digi-Key; ComponentLink5URL: https://datasheet.ciiva.com/911/sb5100-911278.pdf?src-supplier=Digi-Key; ComponentLink5Description: https://datasheet.ciiva.com/911/sb5100-911278.pdf?src-supplier=Digi-Key; Supplier Part Number 1: SB5100FSCT-ND
footprint SB5100 Schottky Diode
pins: 1 +, 2 -

## SPST Switch
designator S?, comment SPST
SPST Switch
footprint SPST Switch
pins: 1 +, 2 -

## StrataloggerCF
designator U?
PerfectFlite StrataloggerCF COTS altimeter.
footprint StrataloggerCF
pins: 1 VCC, 2 GND, 3 M+, 4 M-, 5 D-, 6 D+

## Teensy 4.1
designator U?
RT1062 Teensy 4.1 - ARM® Cortex®-M7 MCU 32-Bit Embedded Evaluation Board 600 MHz 100 mA RTC Built-in microSD Card reader Arduino IDE compatible; Manufacturer: SparkFun; Manufacturer Part Number: DEV-16996; Supplier 1: Digi-Key; RoHS: No; Category: Embedded Processors and Controllers; Stock 1: 300; Pricing 1: 1=31.88000 (USD); Supplier Part Number 1: 1568-DEV-16996-ND
footprint Teensy 4.1
pins: 1 GND, 4 D2, 14 D12, 15 3.3V, 25 D33, 31 D39, 34 GND, 40 A4/SDA, 41 A5/SCL, 45 A9, 46 3.3V, 47 GND, 48 5V/VIN, 49 VBAT, 50 3.3V, 51 GND

## TIP121TU
designator Q?
Bipolar (BJT) Transistor NPN - Darlington 80 V 5 A 2 W Through Hole TO-220-3; Manufacturer: ON Semiconductor / Fairchild; Collector Emitter Voltage (VCEO): 80V; Emitter Base Voltage (VEBO): 5V; Max Collector Current: 5A; Max Power Dissipation: 2W; Number of Elements: 1; Collector Emitter Saturation Voltage: 2V; Element Configuration: Single; hFE Min: 1000; Collector-emitter Voltage-Max: 4V; Supplier 1: Mouser; Manufacturer Part Number: TIP121TU; RoHS: Yes; Category: BJTs; Stock 1: 1945; Pricing 1: 1=0.89000, 10=0.79300, 50=0.79300, 100=0.61300, 1000=0.43800, 10000=0.40800 (USD); Mounting Technology: Through Hole; Case/Package: TO-220AB; Pins: 3; Weight: 1.214g; Contact Plating: Tin,Matte; Min Operating Temperature: -65°C; Max Operating Temperature: 150°C; Packaging: Rail/Tube; Package Quantity: 50; Polarity: NPN; Collector Base Voltage (VCBO): 80V; Collector Emitter Breakdown Voltage: 80V; Power Dissipation: 2W; Voltage Rating (DC): 80V; Current Rating: 5A; Series: -; Length: 10.67mm; Width: 4.83mm; Height: 16.51mm; Radiation Hardening: No; Lead Free: Lead Free; RoHS Compliant: Yes; ComponentLink1URL: https://datasheet.ciiva.com/4459/tip121-197068-4459491.pdf?src-supplier=Mouser; ComponentLink1Description: https://datasheet.ciiva.com/4459/tip121-197068-4459491.pdf?src-supplier=Mouser; ComponentLink2URL: https://datasheet.ciiva.com/979/tip122-979470.pdf?src-supplier=Digi-Key; ComponentLink2Description: https://datasheet.ciiva.com/979/tip122-979470.pdf?src-supplier=Digi-Key; ComponentLink3URL: https://datasheet.ciiva.com/11211/tip121-11211002.pdf?src-supplier=Avnet; ComponentLink3Description: https://datasheet.ciiva.com/11211/tip121-11211002.pdf?src-supplier=Avnet; Supplier Part Number 1: 512-TIP121TU
footprint TIP121TU DARLINGTON
pins: 1 B, 2 C, 3 E